# Altium footprint library HX0201800000G.PcbLib: 1 footprints
Each footprint in its own frame and in the unit in brackets; x right, y up, seen from the top. Pads: shape width x height; smd on the part's side, far side on the other; paste and mask are expansions set on the pad; w line width, h text height; cw(c..) or ccw(c..) is an arc to the next point about the centre after c.
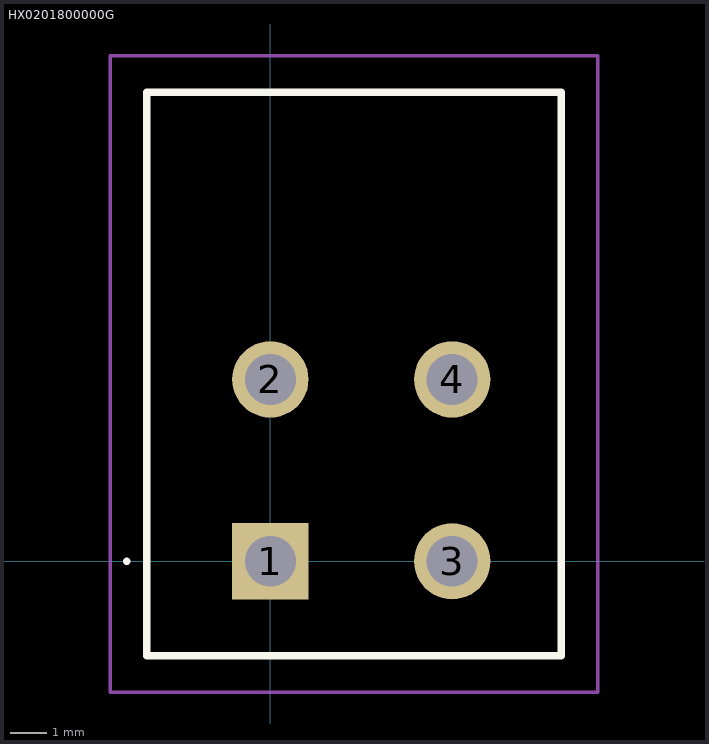
[diagram p0: the footprint, top view; thin cyan lines are the x and y axes]

## HX0201800000G [mm]
pads (4):
  rect 2.1x2.1 hole 1.4: 1(0,0)
  round 2.1 hole 1.4: 2(0,5) 3(5,0) 4(5,5)
Top Overlay:
  lines w0.1: -4,0 cw(c-3.95,0) -3.9,0 ; -4,0 -4,0 ; -4,0 ccw(c-3.95,0) -3.9,0 ; -3.9,0 -3.9,0
  lines w0.2: -3.4,-2.6 8,-2.6 8,12.9 -3.4,12.9 -3.4,-2.6
Mechanical 15:
  lines w0.1: -3.4,-2.6 8,-2.6 8,12.9 -3.4,12.9 -3.4,-2.6
Mechanical 20:
  lines w0.1: -4.4,-3.6 9,-3.6 9,13.9 -4.4,13.9 -4.4,-3.6